# Altium footprint library MLACHQ_S.PCBLIB: 155 footprints (part 4 of 10)
Each footprint in its own frame and in the unit in brackets; x right, y up, seen from the top. Pads: shape width x height; smd on the part's side, far side on the other; paste and mask are expansions set on the pad; w line width, h text height; cw(c..) or ccw(c..) is an arc to the next point about the centre after c.
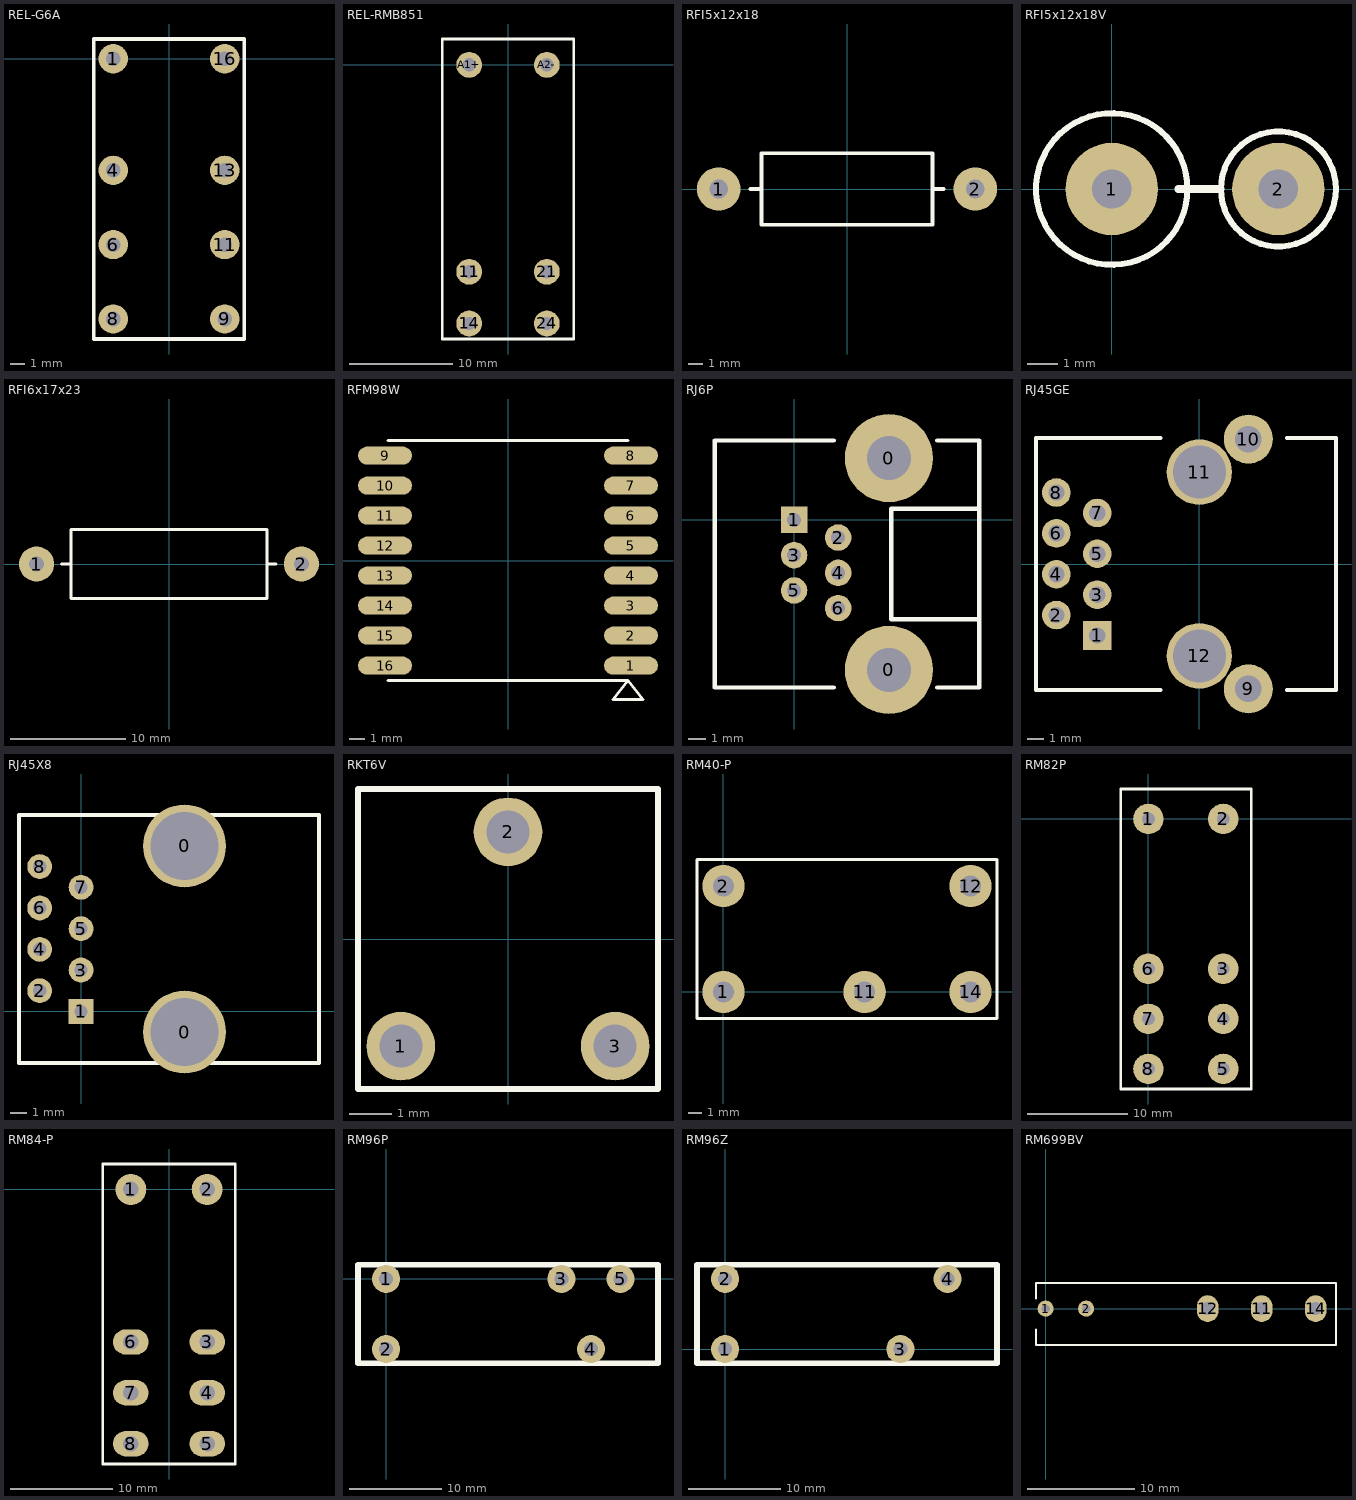
[diagram p3: the footprints below, top view; thin cyan lines are the x and y axes]

## REL-G6A [mm]
pads (8):
  round 2 hole 1: 1(-3.81,0) 4(-3.81,-7.62) 6(-3.81,-12.7) 8(-3.81,-17.78) 9(3.81,-17.78) 11(3.81,-12.7) 13(3.81,-7.62) 16(3.81,0)
TopOverlay:
  lines w0.254: -5.15,-19.15 5.15,-19.15 5.15,1.35 -5.15,1.35 -5.15,-19.15
3D body: height 8, standoff 0, extent -5.014,-18.98 5.01,1.2

## REL-RMB851 [mm]
pads (6):
  round 2.5 hole 1.3: 11(-3.75,-20) 14(-3.75,-25) 21(3.75,-20) 24(3.75,-25) A1+(-3.75,0) A2-(3.75,0)
TopOverlay:
  lines w0.254: -6.35,-26.5 6.35,-26.5 6.35,2.5 -6.35,2.5 -6.35,-26.5
3D body: height 15.7, standoff 0, extent -6.365,-26.5 6.35,2.5

## RFI5x12x18 [mm]
pads (2):
  round 3.048 hole 1.3: 1(-9,0) 2(9,0)
TopOverlay:
  lines w0.25: -6.8,0 -6,0 ; 6,0 6.8,0 ; -6,-2.5 6,-2.5 6,2.5 -6,2.5 -6,-2.5
3D body: height 4.98, standoff 0, extent -6,-2.5 6,2.49
3D body: height 2.9, standoff 2.1, extent -9.1,-0.398 -5.9,0.4
3D body: height 2.9, standoff 2.1, extent 6,-0.4 9.2,0.398
3D body: height 2.9, standoff -0.6, extent -9.398,-0.4 -8.602,0.398
3D body: height 2.9, standoff -0.6, extent 8.602,-0.4 9.398,0.398

## RFI5x12x18V [mil]
pads (2):
  round 120 hole 51.18: 1(0,0) 2(216.54,0)
TopOverlay:
  circle w7.87: c0,0 r98.43
  circle w7.87: c216.54,0 r74.8
  lines w9.84: 86.61,0 141.73,0
3D body: height 570.87, standoff 98.43, extent -98.04,-98.43 98.04,98.04
3D body: height 724.29, standoff 692.91, extent -15.75,-15.75 232.28,15.69
3D body: height 708.66, standoff -23.62, extent -15.69,-15.75 15.69,15.69
3D body: height 708.66, standoff -23.62, extent 200.85,-15.75 232.22,15.69

## RFI6x17x23 [mm]
pads (2):
  round 3.048 hole 1.3: 1(-11.5,0) 2(11.5,0)
TopOverlay:
  lines w0.25: -9.35,0 -8.55,0 ; 8.5,0 9.3,0 ; -8.5,-3 -8.5,3 8.5,3 8.5,-3 -8.5,-3
3D body: height 2.9, standoff -0.6, extent -11.9,-0.399 -11.103,0.399
3D body: height 2.9, standoff -0.6, extent 11.103,-0.399 11.9,0.399
3D body: height 2.9, standoff 2.1, extent 8.3,-0.399 11.5,0.399
3D body: height 2.9, standoff 2.1, extent -11.7,-0.399 -8.5,0.399
3D body: height 6.98, standoff 1, extent -8.45,-3.05 8.55,2.938

## RFM98W [mm]
pads (16):
  oval 3.6x1.2 smd: 1(8.2,-7) 2(8.2,-5) 3(8.2,-3) 4(8.2,-1) 5(8.2,1) 6(8.2,3) 7(8.2,5) 8(8.2,7) 9(-8.2,7) 10(-8.2,5) 11(-8.2,3) 12(-8.2,1) 13(-8.2,-1) 14(-8.2,-3) 15(-8.2,-5) 16(-8.2,-7)
TopOverlay:
  lines w0.2: -8,-8 8,-8 ; -8,8 8,8 ; 8,-8 9,-9.25 7,-9.25 8,-8

## RJ6P [mil]
pads (8):
  round 200 hole 100: 0(215,-340) 0(215,140)
  rect 60x60 hole 32: 1(0,0)
  round 60 hole 32: 2(100,-40) 3(0,-80) 4(100,-120) 5(0,-160) 6(100,-200)
TopOverlay:
  lines w10: 90,-380 -180,-380 -180,180 90,180 ; 325,-380 420,-380 420,180 325,180 ; 420,-225 220,-225 220,25 420,25

## RJ45GE [mil]
pads (12):
  rect 70x70 hole 40: 1(-250,-175)
  round 70 hole 40: 2(-350,-125) 3(-250,-75) 4(-350,-25) 5(-250,25) 6(-350,75) 7(-250,125) 8(-350,175)
  round 120 hole 65: 9(120.08,-305.91) 10(120.08,305.91)
  round 160 hole 130: 11(0,225) 12(0,-225)
TopOverlay:
  lines w10: -95,-309.06 -400,-309.06 -400,309.06 -95,309.06 ; 215,-309.06 334.65,-309.06 334.65,309.06 215,309.06
3D body: height 559.09, standoff -144.41, extent -404.29,-350 330.71,350

## RJ45X8 [mil]
pads (10):
  round 200 hole 165: 0(250,-50) 0(250,400)
  rect 60x60 hole 32: 1(0,0)
  round 60 hole 32: 2(-100,50) 3(0,100) 4(-100,150) 5(0,200) 6(-100,250) 7(0,300) 8(-100,350)
TopOverlay:
  lines w10: -150,-125 575,-125 575,475 -150,475 -150,-125

## RKT6V [mm]
pads (3):
  round 1.6 hole 1 paste+0 mask+0.04: 1(-2.5,-2.5) 2(0,2.5) 3(2.5,-2.5)
TopOverlay:
  lines w0.15: -3.5,-3.5 3.5,-3.5 3.5,3.5 -3.5,3.5 -3.5,-3.5

## RM40-P [mil]
pads (5):
  round 120 hole 60: 1(0,0) 2(0,300) 11(400,0) 12(700,300) 14(700,0)
TopOverlay:
  lines w8: -75,-75 -75,375 775,375 775,-75 -75,-75

## RM82P [mil]
pads (8):
  round 120 hole 50: 1(0,0) 2(295,0) 3(295,-590) 4(295,-787) 5(295,-984) 6(0,-590) 7(0,-787) 8(0,-984)
TopOverlay:
  lines w10: -108,-1063 -108,118 404,118 404,-1063 -108,-1063

## RM84-P [mm]
pads (8):
  round 3.048 hole 1.524: 1(-3.75,0) 2(3.75,0)
  oval 3.5x2.5 hole 1.524: 3(3.75,-15) 4(3.75,-20) 5(3.75,-25) 6(-3.75,-15) 7(-3.75,-20) 8(-3.75,-25)
TopOverlay:
  lines w0.254: -6.5,-27 -6.5,2.5 6.5,2.5 6.5,-27 -6.5,-27
3D body: height 16, standoff 0, extent -6.5,-27 6.5,2.5

## RM96P [mil]
pads (5):
  round 120 hole 60: 1(0,0) 2(0,-300) 3(748.03,0) 4(874.02,-300) 5(1000,0)
TopOverlay:
  lines w25: -120,-360 1160,-360 1160,60 1080,60 -120,60 -120,0 -120,-360

## RM96Z [mil]
pads (4):
  round 120 hole 60: 1(0,0) 2(0,300) 3(748.03,0) 4(948.82,300)
TopOverlay:
  lines w25: -120,-60 -120,0 -120,360 1160,360 1160,-60 1080,-60 -120,-60

## RM699BV [mm]
pads (5):
  round 1.5 hole 0.8: 1(0,0) 2(3.78,0)
  oval 2x2.5 hole 1.2: 11(20.16,0) 12(15.12,0) 14(25.2,0)
TopOverlay:
  lines w0.2: -0.9,-1.95 -0.9,-3.4 27.1,-3.4 27.1,2.4 -0.9,2.4 -0.9,0.95
3D body: height 15, standoff 0, extent -0.9,-3.4 27.1,2.4